# Altium schematic symbol library kmilo17pet-LT_PMIC_LT.SchLib: 2252 symbols (part 23 of 124)
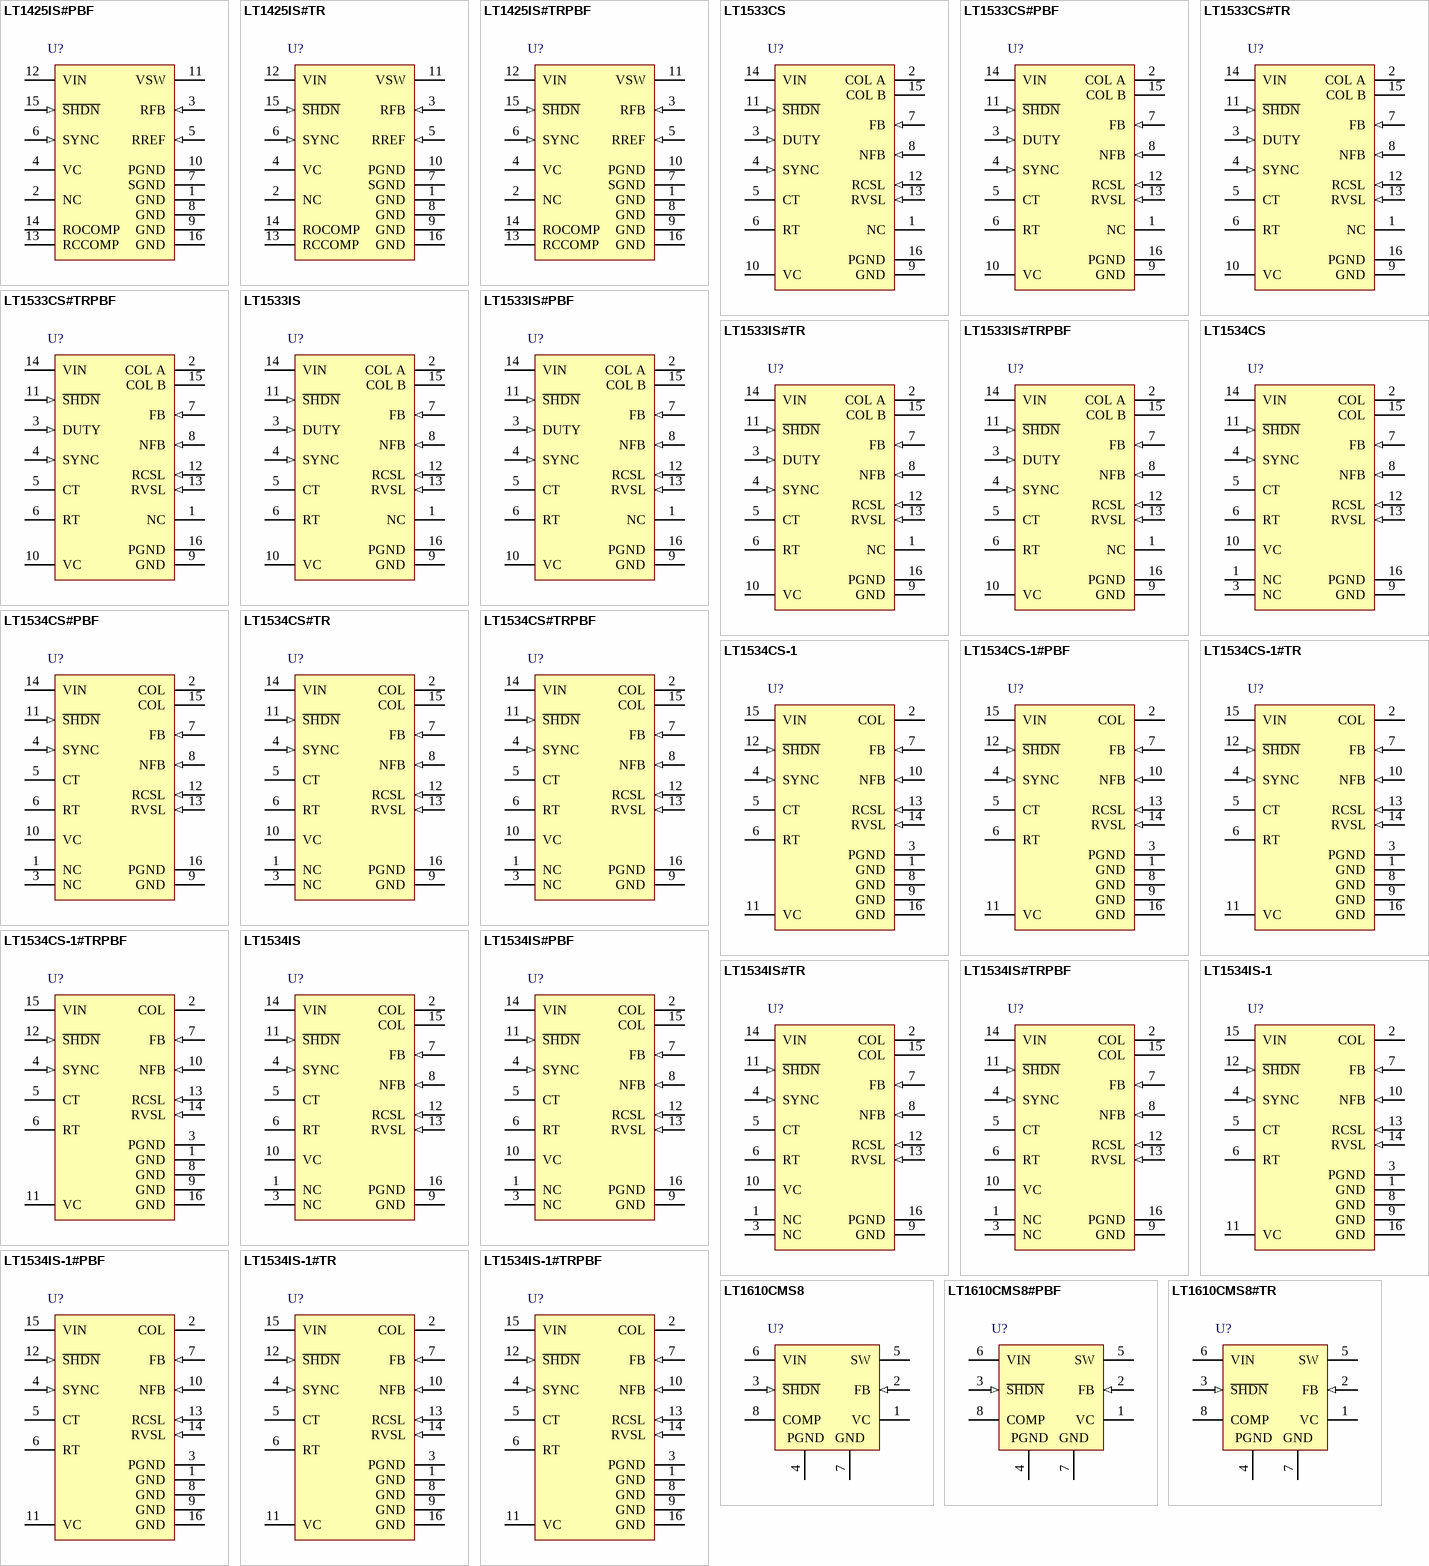
[diagram p93: symbols LT1425IS#PBF to LT1610CMS8#TR]

## LT1534CS#TR
designator U?
Ultralow Noise 2 A Switching Regulator, 16-pin SOP (S-16), 0 to 125 degC, Tape and Reel; Manufacturer: Linear Technology; PartNumber: LT1534CS#TR; Number of Outputs: 1; PackageReference: S-16; PackageDescription: 16-Pin Plastic Small Outline, Body 9.9 x 3.9 mm, Pitch 1.27 mm; Supplier 1: Digi-Key; Supplier Part Number 1: LT1534CS#TR-ND; RoHS: FALSE
footprint LT-S-16_N (SOP, 16-Leads, Body 10x4mm, Pitch 1.27mm, IPC Medium Density)
footprint LT-S-16_L (SOP, 16-Leads, Body 10x4mm, Pitch 1.27mm, IPC High Density)
footprint LT-S-16_M (SOP, 16-Leads, Body 10x4mm, Pitch 1.27mm, IPC Low Density)
pins: 1 NC, 2 COL (power) "These two pins should be connected together externally to create the collector of the power switch. The emitter returns to PGND through a sense resistor. Large currents flow into these pins so it is desirable to keep (See Datasheet)", 3 NC, 4 SYNC (in) "The SYNC pin can be used to synchronize the oscillator to an external clock (see Oscillator Sync inApplications Information section for more details). The SYNC pin may either be floated or tied to ground if not used.", 5 CT "The oscillator capacitor pin is used in conjunction with RT to set the oscillator frequency. For RT = 16.9k,", 6 RT "The oscillator resistor pin is used to set the charge and discharge currents of the oscillator capacitor. The nominal value is 16.9k. It is possible to adjust this resistance +/-25% to get a more accurate oscillator (See Datasheet)", 7 FB (in) "The feedback pin is used for positive voltage sensing and oscillator frequency shifting during start-up and short-circuit conditions. It is the inverting input to the error amplifier. The noninverting input of this amplifier (See Datasheet)", 8 NFB (in) "The negative voltage feedback pin is used for sensing a negative output voltage. The pin is connected to the inverting input of the negative feedback amplifier through a 100k source resistor. The negative feedback amplifier (See Datasheet)", 9 GND (power) "Signal Ground. The internal error amplifier, negative feedback amplifier, oscillator, slew control circuitry and the bandgap reference are referred to this ground. Keep the connection to the feedback divider and VC (See Datasheet)", 10 VC "The compensation pin is used for frequency compensation and current limiting. It is the output of the error amplifier and the input of the current comparator. Loop frequency compensation can be performed with an RC network (See Datasheet)", 11 ~{SHDN} (in) "The shutdown pin is used for disabling the switcher. Grounding this pin will disable all internal circuitry. Normally this output can be tied high (to VIN) or may be left floating.", 12 RCSL (in) "A resistor to ground sets the current slew rate for the power switch. The minimum resistor value is 3.9k and the maximum value is 68k. Current slew will be approximately", 13 RVSL (in) "A resistor to ground sets the voltage slew rate for the power switch collector. The minimum resistor value is 3.9k and the maximum value is 68k. Voltage slew will be approximately", 14 VIN (power) "Input Supply Pin. Bypass this pin with a>=4.7uF low ESR capacitor. When VIN is below 2.55V the part will go into undervoltage lockout where it will stop output switching and pull the VC pin low.", 15 COL (power) "These two pins should be connected together externally to create the collector of the power switch. The emitter returns to PGND through a sense resistor. Large currents flow into these pins so it is desirable to keep (See Datasheet)", 16 PGND (power) "Power Switch Ground. This ground comes from the emitters of the power switches. In normal operation this pin should have approximately 25nH inductance to ground. This can be done by trace inductance (approximately 1") or (See Datasheet)"

## LT1534CS#TRPBF
designator U?
Ultralow Noise 2 A Switching Regulator, 16-pin SOP (S-16), 0 to 125 degC, Pb-Free, Tape and Reel; Manufacturer: Linear Technology; PartNumber: LT1534CS#TRPBF; Number of Outputs: 1; PackageReference: S-16; PackageDescription: 16-Pin Plastic Small Outline, Body 9.9 x 3.9 mm, Pitch 1.27 mm; Supplier 1: Digi-Key; Supplier Part Number 1: LT1534CS#TRPBF-ND; RoHS: TRUE
footprint LT-S-16_N (SOP, 16-Leads, Body 10x4mm, Pitch 1.27mm, IPC Medium Density)
footprint LT-S-16_L (SOP, 16-Leads, Body 10x4mm, Pitch 1.27mm, IPC High Density)
footprint LT-S-16_M (SOP, 16-Leads, Body 10x4mm, Pitch 1.27mm, IPC Low Density)
pins: 1 NC, 2 COL (power) "These two pins should be connected together externally to create the collector of the power switch. The emitter returns to PGND through a sense resistor. Large currents flow into these pins so it is desirable to keep (See Datasheet)", 3 NC, 4 SYNC (in) "The SYNC pin can be used to synchronize the oscillator to an external clock (see Oscillator Sync inApplications Information section for more details). The SYNC pin may either be floated or tied to ground if not used.", 5 CT "The oscillator capacitor pin is used in conjunction with RT to set the oscillator frequency. For RT = 16.9k,", 6 RT "The oscillator resistor pin is used to set the charge and discharge currents of the oscillator capacitor. The nominal value is 16.9k. It is possible to adjust this resistance +/-25% to get a more accurate oscillator (See Datasheet)", 7 FB (in) "The feedback pin is used for positive voltage sensing and oscillator frequency shifting during start-up and short-circuit conditions. It is the inverting input to the error amplifier. The noninverting input of this amplifier (See Datasheet)", 8 NFB (in) "The negative voltage feedback pin is used for sensing a negative output voltage. The pin is connected to the inverting input of the negative feedback amplifier through a 100k source resistor. The negative feedback amplifier (See Datasheet)", 9 GND (power) "Signal Ground. The internal error amplifier, negative feedback amplifier, oscillator, slew control circuitry and the bandgap reference are referred to this ground. Keep the connection to the feedback divider and VC (See Datasheet)", 10 VC "The compensation pin is used for frequency compensation and current limiting. It is the output of the error amplifier and the input of the current comparator. Loop frequency compensation can be performed with an RC network (See Datasheet)", 11 ~{SHDN} (in) "The shutdown pin is used for disabling the switcher. Grounding this pin will disable all internal circuitry. Normally this output can be tied high (to VIN) or may be left floating.", 12 RCSL (in) "A resistor to ground sets the current slew rate for the power switch. The minimum resistor value is 3.9k and the maximum value is 68k. Current slew will be approximately", 13 RVSL (in) "A resistor to ground sets the voltage slew rate for the power switch collector. The minimum resistor value is 3.9k and the maximum value is 68k. Voltage slew will be approximately", 14 VIN (power) "Input Supply Pin. Bypass this pin with a>=4.7uF low ESR capacitor. When VIN is below 2.55V the part will go into undervoltage lockout where it will stop output switching and pull the VC pin low.", 15 COL (power) "These two pins should be connected together externally to create the collector of the power switch. The emitter returns to PGND through a sense resistor. Large currents flow into these pins so it is desirable to keep (See Datasheet)", 16 PGND (power) "Power Switch Ground. This ground comes from the emitters of the power switches. In normal operation this pin should have approximately 25nH inductance to ground. This can be done by trace inductance (approximately 1") or (See Datasheet)"

## LT1534CS-1
designator U?
Ultralow Noise 2 A Switching Regulator, 16-pin SOP (S-16), 0 to 125 degC; Manufacturer: Linear Technology; PartNumber: LT1534CS-1; Number of Outputs: 1; PackageReference: S-16; PackageDescription: 16-Pin Plastic Small Outline, Body 9.9 x 3.9 mm, Pitch 1.27 mm; Supplier 1: Digi-Key; Supplier Part Number 1: LT1534CS-1-ND; RoHS: FALSE
footprint LT-S-16_N (SOP, 16-Leads, Body 10x4mm, Pitch 1.27mm, IPC Medium Density)
footprint LT-S-16_L (SOP, 16-Leads, Body 10x4mm, Pitch 1.27mm, IPC High Density)
footprint LT-S-16_M (SOP, 16-Leads, Body 10x4mm, Pitch 1.27mm, IPC Low Density)
pins: 1 GND (power) "Signal Ground. The internal error amplifier, negative feedback amplifier, oscillator, slew control circuitry and the bandgap reference are referred to this ground. Keep the connection to the feedback divider and VC (See Datasheet)", 2 COL (power) "These two pins should be connected together externally to create the collector of the power switch. The emitter returns to PGND through a sense resistor. Large currents flow into these pins so it is desirable to keep (See Datasheet)", 3 PGND (power) "Power Switch Ground. This ground comes from the emitters of the power switches. In normal operation this pin should have approximately 25nH inductance to ground. This can be done by trace inductance (approximately 1") or (See Datasheet)", 4 SYNC (in) "The SYNC pin can be used to synchronize the oscillator to an external clock (see Oscillator Sync inApplications Information section for more details). The SYNC pin may either be floated or tied to ground if not used.", 5 CT "The oscillator capacitor pin is used in conjunction with RT to set the oscillator frequency. For RT = 16.9k,", 6 RT "The oscillator resistor pin is used to set the charge and discharge currents of the oscillator capacitor. The nominal value is 16.9k. It is possible to adjust this resistance +/-25% to get a more accurate oscillator (See Datasheet)", 7 FB (in) "The feedback pin is used for positive voltage sensing and oscillator frequency shifting during start-up and short-circuit conditions. It is the inverting input to the error amplifier. The noninverting input of this amplifier (See Datasheet)", 8 GND (power) "Signal Ground. The internal error amplifier, negative feedback amplifier, oscillator, slew control circuitry and the bandgap reference are referred to this ground. Keep the connection to the feedback divider and VC (See Datasheet)", 9 GND (power) "Signal Ground. The internal error amplifier, negative feedback amplifier, oscillator, slew control circuitry and the bandgap reference are referred to this ground. Keep the connection to the feedback divider and VC (See Datasheet)", 10 NFB (in) "The negative voltage feedback pin is used for sensing a negative output voltage. The pin is connected to the inverting input of the negative feedback amplifier through a 100k source resistor. The negative feedback amplifier (See Datasheet)", 11 VC "The compensation pin is used for frequency compensation and current limiting. It is the output of the error amplifier and the input of the current comparator. Loop frequency compensation can be performed with an RC network (See Datasheet)", 12 ~{SHDN} (in) "The shutdown pin is used for disabling the switcher. Grounding this pin will disable all internal circuitry. Normally this output can be tied high (to VIN) or may be left floating.", 13 RCSL (in) "A resistor to ground sets the current slew rate for the power switch. The minimum resistor value is 3.9k and the maximum value is 68k. Current slew will be approximately", 14 RVSL (in) "A resistor to ground sets the voltage slew rate for the power switch collector. The minimum resistor value is 3.9k and the maximum value is 68k. Voltage slew will be approximately", 15 VIN (power) "Input Supply Pin. Bypass this pin with a>=4.7uF low ESR capacitor. When VIN is below 2.55V the part will go into undervoltage lockout where it will stop output switching and pull the VC pin low.", 16 GND (power) "Signal Ground. The internal error amplifier, negative feedback amplifier, oscillator, slew control circuitry and the bandgap reference are referred to this ground. Keep the connection to the feedback divider and VC (See Datasheet)"

## LT1534CS-1#PBF
designator U?
Ultralow Noise 2 A Switching Regulator, 16-pin SOP (S-16), 0 to 125 degC, Pb-Free; Manufacturer: Linear Technology; PartNumber: LT1534CS-1#PBF; Number of Outputs: 1; PackageReference: S-16; PackageDescription: 16-Pin Plastic Small Outline, Body 9.9 x 3.9 mm, Pitch 1.27 mm; Supplier 1: Digi-Key; Supplier Part Number 1: LT1534CS-1#PBF-ND; RoHS: TRUE
footprint LT-S-16_N (SOP, 16-Leads, Body 10x4mm, Pitch 1.27mm, IPC Medium Density)
footprint LT-S-16_L (SOP, 16-Leads, Body 10x4mm, Pitch 1.27mm, IPC High Density)
footprint LT-S-16_M (SOP, 16-Leads, Body 10x4mm, Pitch 1.27mm, IPC Low Density)
pins: 1 GND (power) "Signal Ground. The internal error amplifier, negative feedback amplifier, oscillator, slew control circuitry and the bandgap reference are referred to this ground. Keep the connection to the feedback divider and VC (See Datasheet)", 2 COL (power) "These two pins should be connected together externally to create the collector of the power switch. The emitter returns to PGND through a sense resistor. Large currents flow into these pins so it is desirable to keep (See Datasheet)", 3 PGND (power) "Power Switch Ground. This ground comes from the emitters of the power switches. In normal operation this pin should have approximately 25nH inductance to ground. This can be done by trace inductance (approximately 1") or (See Datasheet)", 4 SYNC (in) "The SYNC pin can be used to synchronize the oscillator to an external clock (see Oscillator Sync inApplications Information section for more details). The SYNC pin may either be floated or tied to ground if not used.", 5 CT "The oscillator capacitor pin is used in conjunction with RT to set the oscillator frequency. For RT = 16.9k,", 6 RT "The oscillator resistor pin is used to set the charge and discharge currents of the oscillator capacitor. The nominal value is 16.9k. It is possible to adjust this resistance +/-25% to get a more accurate oscillator (See Datasheet)", 7 FB (in) "The feedback pin is used for positive voltage sensing and oscillator frequency shifting during start-up and short-circuit conditions. It is the inverting input to the error amplifier. The noninverting input of this amplifier (See Datasheet)", 8 GND (power) "Signal Ground. The internal error amplifier, negative feedback amplifier, oscillator, slew control circuitry and the bandgap reference are referred to this ground. Keep the connection to the feedback divider and VC (See Datasheet)", 9 GND (power) "Signal Ground. The internal error amplifier, negative feedback amplifier, oscillator, slew control circuitry and the bandgap reference are referred to this ground. Keep the connection to the feedback divider and VC (See Datasheet)", 10 NFB (in) "The negative voltage feedback pin is used for sensing a negative output voltage. The pin is connected to the inverting input of the negative feedback amplifier through a 100k source resistor. The negative feedback amplifier (See Datasheet)", 11 VC "The compensation pin is used for frequency compensation and current limiting. It is the output of the error amplifier and the input of the current comparator. Loop frequency compensation can be performed with an RC network (See Datasheet)", 12 ~{SHDN} (in) "The shutdown pin is used for disabling the switcher. Grounding this pin will disable all internal circuitry. Normally this output can be tied high (to VIN) or may be left floating.", 13 RCSL (in) "A resistor to ground sets the current slew rate for the power switch. The minimum resistor value is 3.9k and the maximum value is 68k. Current slew will be approximately", 14 RVSL (in) "A resistor to ground sets the voltage slew rate for the power switch collector. The minimum resistor value is 3.9k and the maximum value is 68k. Voltage slew will be approximately", 15 VIN (power) "Input Supply Pin. Bypass this pin with a>=4.7uF low ESR capacitor. When VIN is below 2.55V the part will go into undervoltage lockout where it will stop output switching and pull the VC pin low.", 16 GND (power) "Signal Ground. The internal error amplifier, negative feedback amplifier, oscillator, slew control circuitry and the bandgap reference are referred to this ground. Keep the connection to the feedback divider and VC (See Datasheet)"

## LT1534CS-1#TR
designator U?
Ultralow Noise 2 A Switching Regulator, 16-pin SOP (S-16), 0 to 125 degC, Tape and Reel; Manufacturer: Linear Technology; PartNumber: LT1534CS-1#TR; Number of Outputs: 1; PackageReference: S-16; PackageDescription: 16-Pin Plastic Small Outline, Body 9.9 x 3.9 mm, Pitch 1.27 mm; Supplier 1: Digi-Key; Supplier Part Number 1: LT1534CS-1#TR-ND; RoHS: FALSE
footprint LT-S-16_N (SOP, 16-Leads, Body 10x4mm, Pitch 1.27mm, IPC Medium Density)
footprint LT-S-16_L (SOP, 16-Leads, Body 10x4mm, Pitch 1.27mm, IPC High Density)
footprint LT-S-16_M (SOP, 16-Leads, Body 10x4mm, Pitch 1.27mm, IPC Low Density)
pins: 1 GND (power) "Signal Ground. The internal error amplifier, negative feedback amplifier, oscillator, slew control circuitry and the bandgap reference are referred to this ground. Keep the connection to the feedback divider and VC (See Datasheet)", 2 COL (power) "These two pins should be connected together externally to create the collector of the power switch. The emitter returns to PGND through a sense resistor. Large currents flow into these pins so it is desirable to keep (See Datasheet)", 3 PGND (power) "Power Switch Ground. This ground comes from the emitters of the power switches. In normal operation this pin should have approximately 25nH inductance to ground. This can be done by trace inductance (approximately 1") or (See Datasheet)", 4 SYNC (in) "The SYNC pin can be used to synchronize the oscillator to an external clock (see Oscillator Sync inApplications Information section for more details). The SYNC pin may either be floated or tied to ground if not used.", 5 CT "The oscillator capacitor pin is used in conjunction with RT to set the oscillator frequency. For RT = 16.9k,", 6 RT "The oscillator resistor pin is used to set the charge and discharge currents of the oscillator capacitor. The nominal value is 16.9k. It is possible to adjust this resistance +/-25% to get a more accurate oscillator (See Datasheet)", 7 FB (in) "The feedback pin is used for positive voltage sensing and oscillator frequency shifting during start-up and short-circuit conditions. It is the inverting input to the error amplifier. The noninverting input of this amplifier (See Datasheet)", 8 GND (power) "Signal Ground. The internal error amplifier, negative feedback amplifier, oscillator, slew control circuitry and the bandgap reference are referred to this ground. Keep the connection to the feedback divider and VC (See Datasheet)", 9 GND (power) "Signal Ground. The internal error amplifier, negative feedback amplifier, oscillator, slew control circuitry and the bandgap reference are referred to this ground. Keep the connection to the feedback divider and VC (See Datasheet)", 10 NFB (in) "The negative voltage feedback pin is used for sensing a negative output voltage. The pin is connected to the inverting input of the negative feedback amplifier through a 100k source resistor. The negative feedback amplifier (See Datasheet)", 11 VC "The compensation pin is used for frequency compensation and current limiting. It is the output of the error amplifier and the input of the current comparator. Loop frequency compensation can be performed with an RC network (See Datasheet)", 12 ~{SHDN} (in) "The shutdown pin is used for disabling the switcher. Grounding this pin will disable all internal circuitry. Normally this output can be tied high (to VIN) or may be left floating.", 13 RCSL (in) "A resistor to ground sets the current slew rate for the power switch. The minimum resistor value is 3.9k and the maximum value is 68k. Current slew will be approximately", 14 RVSL (in) "A resistor to ground sets the voltage slew rate for the power switch collector. The minimum resistor value is 3.9k and the maximum value is 68k. Voltage slew will be approximately", 15 VIN (power) "Input Supply Pin. Bypass this pin with a>=4.7uF low ESR capacitor. When VIN is below 2.55V the part will go into undervoltage lockout where it will stop output switching and pull the VC pin low.", 16 GND (power) "Signal Ground. The internal error amplifier, negative feedback amplifier, oscillator, slew control circuitry and the bandgap reference are referred to this ground. Keep the connection to the feedback divider and VC (See Datasheet)"

## LT1534CS-1#TRPBF
designator U?
Ultralow Noise 2 A Switching Regulator, 16-pin SOP (S-16), 0 to 125 degC, Pb-Free, Tape and Reel; Manufacturer: Linear Technology; PartNumber: LT1534CS-1#TRPBF; Number of Outputs: 1; PackageReference: S-16; PackageDescription: 16-Pin Plastic Small Outline, Body 9.9 x 3.9 mm, Pitch 1.27 mm; Supplier 1: Digi-Key; Supplier Part Number 1: LT1534CS-1#TRPBF-ND; RoHS: TRUE
footprint LT-S-16_N (SOP, 16-Leads, Body 10x4mm, Pitch 1.27mm, IPC Medium Density)
footprint LT-S-16_L (SOP, 16-Leads, Body 10x4mm, Pitch 1.27mm, IPC High Density)
footprint LT-S-16_M (SOP, 16-Leads, Body 10x4mm, Pitch 1.27mm, IPC Low Density)
pins: 1 GND (power) "Signal Ground. The internal error amplifier, negative feedback amplifier, oscillator, slew control circuitry and the bandgap reference are referred to this ground. Keep the connection to the feedback divider and VC (See Datasheet)", 2 COL (power) "These two pins should be connected together externally to create the collector of the power switch. The emitter returns to PGND through a sense resistor. Large currents flow into these pins so it is desirable to keep (See Datasheet)", 3 PGND (power) "Power Switch Ground. This ground comes from the emitters of the power switches. In normal operation this pin should have approximately 25nH inductance to ground. This can be done by trace inductance (approximately 1") or (See Datasheet)", 4 SYNC (in) "The SYNC pin can be used to synchronize the oscillator to an external clock (see Oscillator Sync inApplications Information section for more details). The SYNC pin may either be floated or tied to ground if not used.", 5 CT "The oscillator capacitor pin is used in conjunction with RT to set the oscillator frequency. For RT = 16.9k,", 6 RT "The oscillator resistor pin is used to set the charge and discharge currents of the oscillator capacitor. The nominal value is 16.9k. It is possible to adjust this resistance +/-25% to get a more accurate oscillator (See Datasheet)", 7 FB (in) "The feedback pin is used for positive voltage sensing and oscillator frequency shifting during start-up and short-circuit conditions. It is the inverting input to the error amplifier. The noninverting input of this amplifier (See Datasheet)", 8 GND (power) "Signal Ground. The internal error amplifier, negative feedback amplifier, oscillator, slew control circuitry and the bandgap reference are referred to this ground. Keep the connection to the feedback divider and VC (See Datasheet)", 9 GND (power) "Signal Ground. The internal error amplifier, negative feedback amplifier, oscillator, slew control circuitry and the bandgap reference are referred to this ground. Keep the connection to the feedback divider and VC (See Datasheet)", 10 NFB (in) "The negative voltage feedback pin is used for sensing a negative output voltage. The pin is connected to the inverting input of the negative feedback amplifier through a 100k source resistor. The negative feedback amplifier (See Datasheet)", 11 VC "The compensation pin is used for frequency compensation and current limiting. It is the output of the error amplifier and the input of the current comparator. Loop frequency compensation can be performed with an RC network (See Datasheet)", 12 ~{SHDN} (in) "The shutdown pin is used for disabling the switcher. Grounding this pin will disable all internal circuitry. Normally this output can be tied high (to VIN) or may be left floating.", 13 RCSL (in) "A resistor to ground sets the current slew rate for the power switch. The minimum resistor value is 3.9k and the maximum value is 68k. Current slew will be approximately", 14 RVSL (in) "A resistor to ground sets the voltage slew rate for the power switch collector. The minimum resistor value is 3.9k and the maximum value is 68k. Voltage slew will be approximately", 15 VIN (power) "Input Supply Pin. Bypass this pin with a>=4.7uF low ESR capacitor. When VIN is below 2.55V the part will go into undervoltage lockout where it will stop output switching and pull the VC pin low.", 16 GND (power) "Signal Ground. The internal error amplifier, negative feedback amplifier, oscillator, slew control circuitry and the bandgap reference are referred to this ground. Keep the connection to the feedback divider and VC (See Datasheet)"

## LT1534IS
designator U?
Ultralow Noise 2 A Switching Regulator, 16-pin SOP (S-16), -40 to 125 degC; Manufacturer: Linear Technology; PartNumber: LT1534IS; Number of Outputs: 1; PackageReference: S-16; PackageDescription: 16-Pin Plastic Small Outline, Body 9.9 x 3.9 mm, Pitch 1.27 mm; Supplier 1: Digi-Key; Supplier Part Number 1: LT1534IS-ND; RoHS: FALSE
footprint LT-S-16_N (SOP, 16-Leads, Body 10x4mm, Pitch 1.27mm, IPC Medium Density)
footprint LT-S-16_L (SOP, 16-Leads, Body 10x4mm, Pitch 1.27mm, IPC High Density)
footprint LT-S-16_M (SOP, 16-Leads, Body 10x4mm, Pitch 1.27mm, IPC Low Density)
pins: 1 NC, 2 COL (power) "These two pins should be connected together externally to create the collector of the power switch. The emitter returns to PGND through a sense resistor. Large currents flow into these pins so it is desirable to keep (See Datasheet)", 3 NC, 4 SYNC (in) "The SYNC pin can be used to synchronize the oscillator to an external clock (see Oscillator Sync inApplications Information section for more details). The SYNC pin may either be floated or tied to ground if not used.", 5 CT "The oscillator capacitor pin is used in conjunction with RT to set the oscillator frequency. For RT = 16.9k,", 6 RT "The oscillator resistor pin is used to set the charge and discharge currents of the oscillator capacitor. The nominal value is 16.9k. It is possible to adjust this resistance +/-25% to get a more accurate oscillator (See Datasheet)", 7 FB (in) "The feedback pin is used for positive voltage sensing and oscillator frequency shifting during start-up and short-circuit conditions. It is the inverting input to the error amplifier. The noninverting input of this amplifier (See Datasheet)", 8 NFB (in) "The negative voltage feedback pin is used for sensing a negative output voltage. The pin is connected to the inverting input of the negative feedback amplifier through a 100k source resistor. The negative feedback amplifier (See Datasheet)", 9 GND (power) "Signal Ground. The internal error amplifier, negative feedback amplifier, oscillator, slew control circuitry and the bandgap reference are referred to this ground. Keep the connection to the feedback divider and VC (See Datasheet)", 10 VC "The compensation pin is used for frequency compensation and current limiting. It is the output of the error amplifier and the input of the current comparator. Loop frequency compensation can be performed with an RC network (See Datasheet)", 11 ~{SHDN} (in) "The shutdown pin is used for disabling the switcher. Grounding this pin will disable all internal circuitry. Normally this output can be tied high (to VIN) or may be left floating.", 12 RCSL (in) "A resistor to ground sets the current slew rate for the power switch. The minimum resistor value is 3.9k and the maximum value is 68k. Current slew will be approximately", 13 RVSL (in) "A resistor to ground sets the voltage slew rate for the power switch collector. The minimum resistor value is 3.9k and the maximum value is 68k. Voltage slew will be approximately", 14 VIN (power) "Input Supply Pin. Bypass this pin with a>=4.7uF low ESR capacitor. When VIN is below 2.55V the part will go into undervoltage lockout where it will stop output switching and pull the VC pin low.", 15 COL (power) "These two pins should be connected together externally to create the collector of the power switch. The emitter returns to PGND through a sense resistor. Large currents flow into these pins so it is desirable to keep (See Datasheet)", 16 PGND (power) "Power Switch Ground. This ground comes from the emitters of the power switches. In normal operation this pin should have approximately 25nH inductance to ground. This can be done by trace inductance (approximately 1") or (See Datasheet)"

## LT1534IS#PBF
designator U?
Ultralow Noise 2 A Switching Regulator, 16-pin SOP (S-16), -40 to 125 degC, Pb-Free; Manufacturer: Linear Technology; PartNumber: LT1534IS#PBF; Number of Outputs: 1; PackageReference: S-16; PackageDescription: 16-Pin Plastic Small Outline, Body 9.9 x 3.9 mm, Pitch 1.27 mm; Supplier 1: Digi-Key; Supplier Part Number 1: LT1534IS#PBF-ND; RoHS: TRUE
footprint LT-S-16_N (SOP, 16-Leads, Body 10x4mm, Pitch 1.27mm, IPC Medium Density)
footprint LT-S-16_L (SOP, 16-Leads, Body 10x4mm, Pitch 1.27mm, IPC High Density)
footprint LT-S-16_M (SOP, 16-Leads, Body 10x4mm, Pitch 1.27mm, IPC Low Density)
pins: 1 NC, 2 COL (power) "These two pins should be connected together externally to create the collector of the power switch. The emitter returns to PGND through a sense resistor. Large currents flow into these pins so it is desirable to keep (See Datasheet)", 3 NC, 4 SYNC (in) "The SYNC pin can be used to synchronize the oscillator to an external clock (see Oscillator Sync inApplications Information section for more details). The SYNC pin may either be floated or tied to ground if not used.", 5 CT "The oscillator capacitor pin is used in conjunction with RT to set the oscillator frequency. For RT = 16.9k,", 6 RT "The oscillator resistor pin is used to set the charge and discharge currents of the oscillator capacitor. The nominal value is 16.9k. It is possible to adjust this resistance +/-25% to get a more accurate oscillator (See Datasheet)", 7 FB (in) "The feedback pin is used for positive voltage sensing and oscillator frequency shifting during start-up and short-circuit conditions. It is the inverting input to the error amplifier. The noninverting input of this amplifier (See Datasheet)", 8 NFB (in) "The negative voltage feedback pin is used for sensing a negative output voltage. The pin is connected to the inverting input of the negative feedback amplifier through a 100k source resistor. The negative feedback amplifier (See Datasheet)", 9 GND (power) "Signal Ground. The internal error amplifier, negative feedback amplifier, oscillator, slew control circuitry and the bandgap reference are referred to this ground. Keep the connection to the feedback divider and VC (See Datasheet)", 10 VC "The compensation pin is used for frequency compensation and current limiting. It is the output of the error amplifier and the input of the current comparator. Loop frequency compensation can be performed with an RC network (See Datasheet)", 11 ~{SHDN} (in) "The shutdown pin is used for disabling the switcher. Grounding this pin will disable all internal circuitry. Normally this output can be tied high (to VIN) or may be left floating.", 12 RCSL (in) "A resistor to ground sets the current slew rate for the power switch. The minimum resistor value is 3.9k and the maximum value is 68k. Current slew will be approximately", 13 RVSL (in) "A resistor to ground sets the voltage slew rate for the power switch collector. The minimum resistor value is 3.9k and the maximum value is 68k. Voltage slew will be approximately", 14 VIN (power) "Input Supply Pin. Bypass this pin with a>=4.7uF low ESR capacitor. When VIN is below 2.55V the part will go into undervoltage lockout where it will stop output switching and pull the VC pin low.", 15 COL (power) "These two pins should be connected together externally to create the collector of the power switch. The emitter returns to PGND through a sense resistor. Large currents flow into these pins so it is desirable to keep (See Datasheet)", 16 PGND (power) "Power Switch Ground. This ground comes from the emitters of the power switches. In normal operation this pin should have approximately 25nH inductance to ground. This can be done by trace inductance (approximately 1") or (See Datasheet)"

## LT1534IS#TR
designator U?
Ultralow Noise 2 A Switching Regulator, 16-pin SOP (S-16), -40 to 125 degC, Tape and Reel; Manufacturer: Linear Technology; PartNumber: LT1534IS#TR; Number of Outputs: 1; PackageReference: S-16; PackageDescription: 16-Pin Plastic Small Outline, Body 9.9 x 3.9 mm, Pitch 1.27 mm; Supplier 1: Digi-Key; Supplier Part Number 1: LT1534IS#TR-ND; RoHS: FALSE
footprint LT-S-16_N (SOP, 16-Leads, Body 10x4mm, Pitch 1.27mm, IPC Medium Density)
footprint LT-S-16_L (SOP, 16-Leads, Body 10x4mm, Pitch 1.27mm, IPC High Density)
footprint LT-S-16_M (SOP, 16-Leads, Body 10x4mm, Pitch 1.27mm, IPC Low Density)
pins: 1 NC, 2 COL (power) "These two pins should be connected together externally to create the collector of the power switch. The emitter returns to PGND through a sense resistor. Large currents flow into these pins so it is desirable to keep (See Datasheet)", 3 NC, 4 SYNC (in) "The SYNC pin can be used to synchronize the oscillator to an external clock (see Oscillator Sync inApplications Information section for more details). The SYNC pin may either be floated or tied to ground if not used.", 5 CT "The oscillator capacitor pin is used in conjunction with RT to set the oscillator frequency. For RT = 16.9k,", 6 RT "The oscillator resistor pin is used to set the charge and discharge currents of the oscillator capacitor. The nominal value is 16.9k. It is possible to adjust this resistance +/-25% to get a more accurate oscillator (See Datasheet)", 7 FB (in) "The feedback pin is used for positive voltage sensing and oscillator frequency shifting during start-up and short-circuit conditions. It is the inverting input to the error amplifier. The noninverting input of this amplifier (See Datasheet)", 8 NFB (in) "The negative voltage feedback pin is used for sensing a negative output voltage. The pin is connected to the inverting input of the negative feedback amplifier through a 100k source resistor. The negative feedback amplifier (See Datasheet)", 9 GND (power) "Signal Ground. The internal error amplifier, negative feedback amplifier, oscillator, slew control circuitry and the bandgap reference are referred to this ground. Keep the connection to the feedback divider and VC (See Datasheet)", 10 VC "The compensation pin is used for frequency compensation and current limiting. It is the output of the error amplifier and the input of the current comparator. Loop frequency compensation can be performed with an RC network (See Datasheet)", 11 ~{SHDN} (in) "The shutdown pin is used for disabling the switcher. Grounding this pin will disable all internal circuitry. Normally this output can be tied high (to VIN) or may be left floating.", 12 RCSL (in) "A resistor to ground sets the current slew rate for the power switch. The minimum resistor value is 3.9k and the maximum value is 68k. Current slew will be approximately", 13 RVSL (in) "A resistor to ground sets the voltage slew rate for the power switch collector. The minimum resistor value is 3.9k and the maximum value is 68k. Voltage slew will be approximately", 14 VIN (power) "Input Supply Pin. Bypass this pin with a>=4.7uF low ESR capacitor. When VIN is below 2.55V the part will go into undervoltage lockout where it will stop output switching and pull the VC pin low.", 15 COL (power) "These two pins should be connected together externally to create the collector of the power switch. The emitter returns to PGND through a sense resistor. Large currents flow into these pins so it is desirable to keep (See Datasheet)", 16 PGND (power) "Power Switch Ground. This ground comes from the emitters of the power switches. In normal operation this pin should have approximately 25nH inductance to ground. This can be done by trace inductance (approximately 1") or (See Datasheet)"

## LT1534IS#TRPBF
designator U?
Ultralow Noise 2 A Switching Regulator, 16-pin SOP (S-16), -40 to 125 degC, Pb-Free, Tape and Reel; Manufacturer: Linear Technology; PartNumber: LT1534IS#TRPBF; Number of Outputs: 1; PackageReference: S-16; PackageDescription: 16-Pin Plastic Small Outline, Body 9.9 x 3.9 mm, Pitch 1.27 mm; Supplier 1: Digi-Key; Supplier Part Number 1: LT1534IS#TRPBF-ND; RoHS: TRUE
footprint LT-S-16_N (SOP, 16-Leads, Body 10x4mm, Pitch 1.27mm, IPC Medium Density)
footprint LT-S-16_L (SOP, 16-Leads, Body 10x4mm, Pitch 1.27mm, IPC High Density)
footprint LT-S-16_M (SOP, 16-Leads, Body 10x4mm, Pitch 1.27mm, IPC Low Density)
pins: 1 NC, 2 COL (power) "These two pins should be connected together externally to create the collector of the power switch. The emitter returns to PGND through a sense resistor. Large currents flow into these pins so it is desirable to keep (See Datasheet)", 3 NC, 4 SYNC (in) "The SYNC pin can be used to synchronize the oscillator to an external clock (see Oscillator Sync inApplications Information section for more details). The SYNC pin may either be floated or tied to ground if not used.", 5 CT "The oscillator capacitor pin is used in conjunction with RT to set the oscillator frequency. For RT = 16.9k,", 6 RT "The oscillator resistor pin is used to set the charge and discharge currents of the oscillator capacitor. The nominal value is 16.9k. It is possible to adjust this resistance +/-25% to get a more accurate oscillator (See Datasheet)", 7 FB (in) "The feedback pin is used for positive voltage sensing and oscillator frequency shifting during start-up and short-circuit conditions. It is the inverting input to the error amplifier. The noninverting input of this amplifier (See Datasheet)", 8 NFB (in) "The negative voltage feedback pin is used for sensing a negative output voltage. The pin is connected to the inverting input of the negative feedback amplifier through a 100k source resistor. The negative feedback amplifier (See Datasheet)", 9 GND (power) "Signal Ground. The internal error amplifier, negative feedback amplifier, oscillator, slew control circuitry and the bandgap reference are referred to this ground. Keep the connection to the feedback divider and VC (See Datasheet)", 10 VC "The compensation pin is used for frequency compensation and current limiting. It is the output of the error amplifier and the input of the current comparator. Loop frequency compensation can be performed with an RC network (See Datasheet)", 11 ~{SHDN} (in) "The shutdown pin is used for disabling the switcher. Grounding this pin will disable all internal circuitry. Normally this output can be tied high (to VIN) or may be left floating.", 12 RCSL (in) "A resistor to ground sets the current slew rate for the power switch. The minimum resistor value is 3.9k and the maximum value is 68k. Current slew will be approximately", 13 RVSL (in) "A resistor to ground sets the voltage slew rate for the power switch collector. The minimum resistor value is 3.9k and the maximum value is 68k. Voltage slew will be approximately", 14 VIN (power) "Input Supply Pin. Bypass this pin with a>=4.7uF low ESR capacitor. When VIN is below 2.55V the part will go into undervoltage lockout where it will stop output switching and pull the VC pin low.", 15 COL (power) "These two pins should be connected together externally to create the collector of the power switch. The emitter returns to PGND through a sense resistor. Large currents flow into these pins so it is desirable to keep (See Datasheet)", 16 PGND (power) "Power Switch Ground. This ground comes from the emitters of the power switches. In normal operation this pin should have approximately 25nH inductance to ground. This can be done by trace inductance (approximately 1") or (See Datasheet)"

## LT1534IS-1
designator U?
Ultralow Noise 2 A Switching Regulator, 16-pin SOP (S-16), -40 to 125 degC; Manufacturer: Linear Technology; PartNumber: LT1534IS-1; Number of Outputs: 1; PackageReference: S-16; PackageDescription: 16-Pin Plastic Small Outline, Body 9.9 x 3.9 mm, Pitch 1.27 mm; Supplier 1: Digi-Key; Supplier Part Number 1: LT1534IS-1-ND; RoHS: FALSE
footprint LT-S-16_N (SOP, 16-Leads, Body 10x4mm, Pitch 1.27mm, IPC Medium Density)
footprint LT-S-16_L (SOP, 16-Leads, Body 10x4mm, Pitch 1.27mm, IPC High Density)
footprint LT-S-16_M (SOP, 16-Leads, Body 10x4mm, Pitch 1.27mm, IPC Low Density)
pins: 1 GND (power) "Signal Ground. The internal error amplifier, negative feedback amplifier, oscillator, slew control circuitry and the bandgap reference are referred to this ground. Keep the connection to the feedback divider and VC (See Datasheet)", 2 COL (power) "These two pins should be connected together externally to create the collector of the power switch. The emitter returns to PGND through a sense resistor. Large currents flow into these pins so it is desirable to keep (See Datasheet)", 3 PGND (power) "Power Switch Ground. This ground comes from the emitters of the power switches. In normal operation this pin should have approximately 25nH inductance to ground. This can be done by trace inductance (approximately 1") or (See Datasheet)", 4 SYNC (in) "The SYNC pin can be used to synchronize the oscillator to an external clock (see Oscillator Sync inApplications Information section for more details). The SYNC pin may either be floated or tied to ground if not used.", 5 CT "The oscillator capacitor pin is used in conjunction with RT to set the oscillator frequency. For RT = 16.9k,", 6 RT "The oscillator resistor pin is used to set the charge and discharge currents of the oscillator capacitor. The nominal value is 16.9k. It is possible to adjust this resistance +/-25% to get a more accurate oscillator (See Datasheet)", 7 FB (in) "The feedback pin is used for positive voltage sensing and oscillator frequency shifting during start-up and short-circuit conditions. It is the inverting input to the error amplifier. The noninverting input of this amplifier (See Datasheet)", 8 GND (power) "Signal Ground. The internal error amplifier, negative feedback amplifier, oscillator, slew control circuitry and the bandgap reference are referred to this ground. Keep the connection to the feedback divider and VC (See Datasheet)", 9 GND (power) "Signal Ground. The internal error amplifier, negative feedback amplifier, oscillator, slew control circuitry and the bandgap reference are referred to this ground. Keep the connection to the feedback divider and VC (See Datasheet)", 10 NFB (in) "The negative voltage feedback pin is used for sensing a negative output voltage. The pin is connected to the inverting input of the negative feedback amplifier through a 100k source resistor. The negative feedback amplifier (See Datasheet)", 11 VC "The compensation pin is used for frequency compensation and current limiting. It is the output of the error amplifier and the input of the current comparator. Loop frequency compensation can be performed with an RC network (See Datasheet)", 12 ~{SHDN} (in) "The shutdown pin is used for disabling the switcher. Grounding this pin will disable all internal circuitry. Normally this output can be tied high (to VIN) or may be left floating.", 13 RCSL (in) "A resistor to ground sets the current slew rate for the power switch. The minimum resistor value is 3.9k and the maximum value is 68k. Current slew will be approximately", 14 RVSL (in) "A resistor to ground sets the voltage slew rate for the power switch collector. The minimum resistor value is 3.9k and the maximum value is 68k. Voltage slew will be approximately", 15 VIN (power) "Input Supply Pin. Bypass this pin with a>=4.7uF low ESR capacitor. When VIN is below 2.55V the part will go into undervoltage lockout where it will stop output switching and pull the VC pin low.", 16 GND (power) "Signal Ground. The internal error amplifier, negative feedback amplifier, oscillator, slew control circuitry and the bandgap reference are referred to this ground. Keep the connection to the feedback divider and VC (See Datasheet)"

## LT1534IS-1#PBF
designator U?
Ultralow Noise 2 A Switching Regulator, 16-pin SOP (S-16), -40 to 125 degC, Pb-Free; Manufacturer: Linear Technology; PartNumber: LT1534IS-1#PBF; Number of Outputs: 1; PackageReference: S-16; PackageDescription: 16-Pin Plastic Small Outline, Body 9.9 x 3.9 mm, Pitch 1.27 mm; Supplier 1: Digi-Key; Supplier Part Number 1: LT1534IS-1#PBF-ND; RoHS: TRUE
footprint LT-S-16_N (SOP, 16-Leads, Body 10x4mm, Pitch 1.27mm, IPC Medium Density)
footprint LT-S-16_L (SOP, 16-Leads, Body 10x4mm, Pitch 1.27mm, IPC High Density)
footprint LT-S-16_M (SOP, 16-Leads, Body 10x4mm, Pitch 1.27mm, IPC Low Density)
pins: 1 GND (power) "Signal Ground. The internal error amplifier, negative feedback amplifier, oscillator, slew control circuitry and the bandgap reference are referred to this ground. Keep the connection to the feedback divider and VC (See Datasheet)", 2 COL (power) "These two pins should be connected together externally to create the collector of the power switch. The emitter returns to PGND through a sense resistor. Large currents flow into these pins so it is desirable to keep (See Datasheet)", 3 PGND (power) "Power Switch Ground. This ground comes from the emitters of the power switches. In normal operation this pin should have approximately 25nH inductance to ground. This can be done by trace inductance (approximately 1") or (See Datasheet)", 4 SYNC (in) "The SYNC pin can be used to synchronize the oscillator to an external clock (see Oscillator Sync inApplications Information section for more details). The SYNC pin may either be floated or tied to ground if not used.", 5 CT "The oscillator capacitor pin is used in conjunction with RT to set the oscillator frequency. For RT = 16.9k,", 6 RT "The oscillator resistor pin is used to set the charge and discharge currents of the oscillator capacitor. The nominal value is 16.9k. It is possible to adjust this resistance +/-25% to get a more accurate oscillator (See Datasheet)", 7 FB (in) "The feedback pin is used for positive voltage sensing and oscillator frequency shifting during start-up and short-circuit conditions. It is the inverting input to the error amplifier. The noninverting input of this amplifier (See Datasheet)", 8 GND (power) "Signal Ground. The internal error amplifier, negative feedback amplifier, oscillator, slew control circuitry and the bandgap reference are referred to this ground. Keep the connection to the feedback divider and VC (See Datasheet)", 9 GND (power) "Signal Ground. The internal error amplifier, negative feedback amplifier, oscillator, slew control circuitry and the bandgap reference are referred to this ground. Keep the connection to the feedback divider and VC (See Datasheet)", 10 NFB (in) "The negative voltage feedback pin is used for sensing a negative output voltage. The pin is connected to the inverting input of the negative feedback amplifier through a 100k source resistor. The negative feedback amplifier (See Datasheet)", 11 VC "The compensation pin is used for frequency compensation and current limiting. It is the output of the error amplifier and the input of the current comparator. Loop frequency compensation can be performed with an RC network (See Datasheet)", 12 ~{SHDN} (in) "The shutdown pin is used for disabling the switcher. Grounding this pin will disable all internal circuitry. Normally this output can be tied high (to VIN) or may be left floating.", 13 RCSL (in) "A resistor to ground sets the current slew rate for the power switch. The minimum resistor value is 3.9k and the maximum value is 68k. Current slew will be approximately", 14 RVSL (in) "A resistor to ground sets the voltage slew rate for the power switch collector. The minimum resistor value is 3.9k and the maximum value is 68k. Voltage slew will be approximately", 15 VIN (power) "Input Supply Pin. Bypass this pin with a>=4.7uF low ESR capacitor. When VIN is below 2.55V the part will go into undervoltage lockout where it will stop output switching and pull the VC pin low.", 16 GND (power) "Signal Ground. The internal error amplifier, negative feedback amplifier, oscillator, slew control circuitry and the bandgap reference are referred to this ground. Keep the connection to the feedback divider and VC (See Datasheet)"